# Altium schematic symbol library Connectors.SchLib: 27 symbols
Pins are listed as number, name and electrical type; pins without a type are passive.

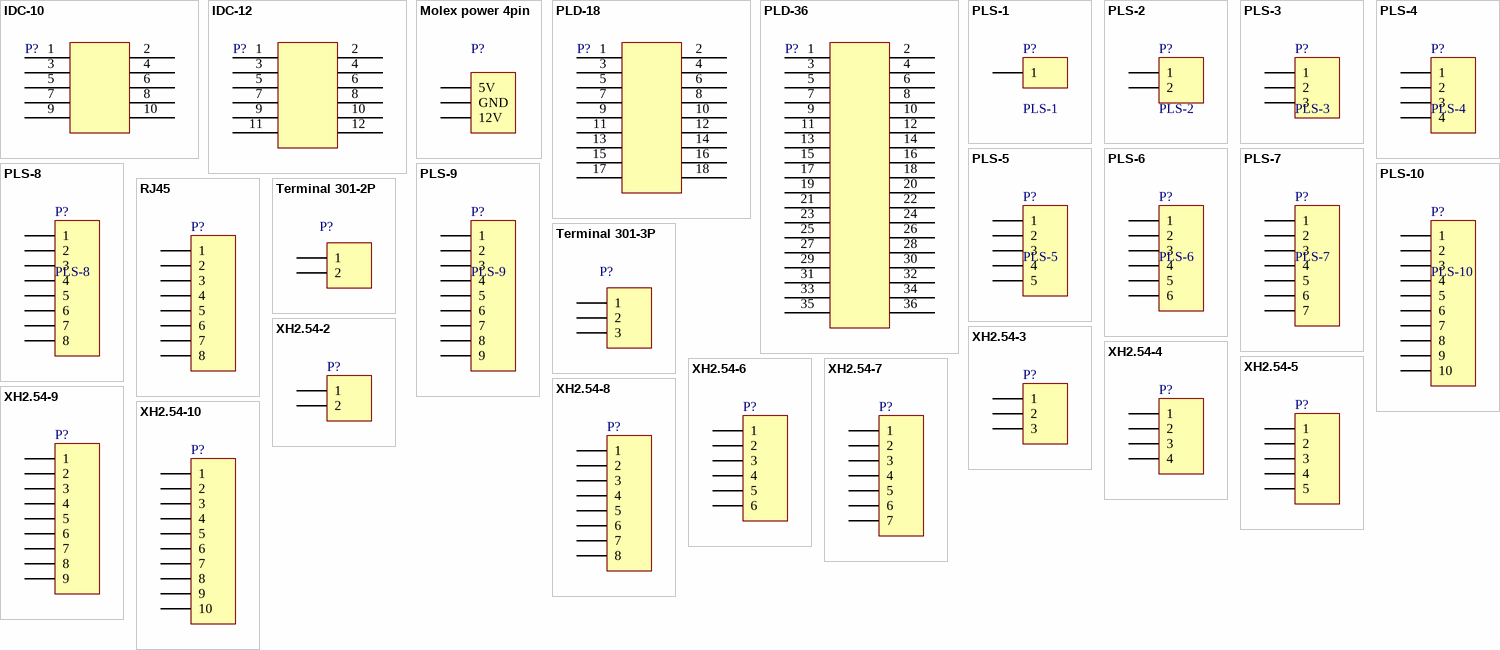
[diagram p0: symbols IDC-10 to XH2.54-10]

## IDC-10
designator P?  (value not drawn)
Double row pins
footprint IDC-10
signal-integrity model Connector
footprint IDC-10R
pins: 1 "5v", 2 "5v", 3 "Digital 22", 4 "Digital 23", 5 "Digital 24", 6 "Digital 25", 7 "Digital 26", 8 "Digital 27", 9 "Digital 28", 10 "Digital 29"

## IDC-12
designator P?  (value not drawn)
Double row pins
footprint IDC-12
signal-integrity model Connector
footprint IDC-12R
pins: 1 "5v", 2 "5v", 3 "Digital 22", 4 "Digital 23", 5 "Digital 24", 6 "Digital 25", 7 "Digital 26", 8 "Digital 27", 9 "Digital 28", 10 "Digital 29", 11 "Digital 30", 12 "Digital 31"

## Molex power 4pin
designator P?, comment Molex IDE power  (value not drawn)
from HDD
footprint molex 4pin
signal-integrity model Connector
pins: 5V, 12V, GND

## PLD-18
designator P?  (value not drawn)
Double row pins
footprint PLD-18-SMD
signal-integrity model Connector
pins: 1 "5v", 2 "5v", 3 "Digital 22", 4 "Digital 23", 5 "Digital 24", 6 "Digital 25", 7 "Digital 26", 8 "Digital 27", 9 "Digital 28", 10 "Digital 29", 11 "Digital 30", 12 "Digital 31", 13 "Digital 32", 14 "Digital 33", 15 "Digital 34", 16 "Digital 35", 17 "Digital 36", 18 "Digital 37"

## PLD-36
designator P?  (value not drawn)
Double row pins
footprint PLD-36-SMD
signal-integrity model Connector
pins: 1 "5v", 2 "5v", 3 "Digital 22", 4 "Digital 23", 5 "Digital 24", 6 "Digital 25", 7 "Digital 26", 8 "Digital 27", 9 "Digital 28", 10 "Digital 29", 11 "Digital 30", 12 "Digital 31", 13 "Digital 32", 14 "Digital 33", 15 "Digital 34", 16 "Digital 35", 17 "Digital 36", 18 "Digital 37", 19 "Digital 38", 20 "Digital 39", 21 "Digital 40", 22 "Digital 41", 23 "Digital 42", 24 "Digital 43", 25 "Digital 44", 26 "Digital 45", 27 "Digital 46", 28 "Digital 47", 29 "Digital 48", 30 "Digital 49", 31 "Digital 50", 32 "Digital 51", 33 "Digital 52", 34 "Digital 53", 35 "0v", 36 "0v"

## PLS-1
designator P?
Single row pins
footprint PLS-1
signal-integrity model Connector
footprint PLS-1R
pins: 1

## PLS-2
designator P?
Single row pins
footprint PLS-2
signal-integrity model Connector
footprint PLS-2R
footprint PLS-2-SMD
pins: 1, 2

## PLS-3
designator P?
Single row pins
footprint PLS-3
signal-integrity model Connector
footprint PLS-3R
pins: 1, 2, 3

## PLS-4
designator P?
Single row pins
footprint PLS-4
signal-integrity model Connector
footprint PLS-4R
footprint PLS-4-SMD
pins: 1, 2, 3, 4

## PLS-5
designator P?
Single row pins
footprint PLS-5
signal-integrity model Connector
footprint PLS-5R
pins: 1, 2, 3, 4, 5

## PLS-6
designator P?
Single row pins
footprint PLS-6
signal-integrity model Connector
footprint PLS-6R
footprint PLS-6-SMD
pins: 1, 2, 3, 4, 5, 6

## PLS-7
designator P?
Single row pins
footprint PLS-7
signal-integrity model Connector
footprint PLS-7R
pins: 1, 2, 3, 4, 5, 6, 7

## PLS-8
designator P?
Single row pins
footprint PLS-8
signal-integrity model Connector
footprint PLS-8R
footprint PLS-8-SMD
pins: 1, 2, 3, 4, 5, 6, 7, 8

## PLS-9
designator P?
Single row pins
footprint PLS-9
signal-integrity model Connector
footprint PLS-9R
pins: 1, 2, 3, 4, 5, 6, 7, 8, 9

## PLS-10
designator P?
Single row pins
footprint PLS-10
signal-integrity model Connector
footprint PLS-10R
footprint PLS-10-SMD
pins: 1, 2, 3, 4, 5, 6, 7, 8, 9, 10

## RJ45
designator P?  (value not drawn)
Ethernet
footprint RJ-45 socket (YH-55-05)
signal-integrity model Connector
pins: 1, 2, 3, 4, 5, 6, 7, 8

## Terminal 301-2P
designator P?  (value not drawn)
Screw terminal 5.08mm pitch
footprint Terminal 301-2P (Screw terminal 5.08mm pitch)
pins: 1, 2

## Terminal 301-3P
designator P?  (value not drawn)
Screw terminal 5.08mm pitch
footprint Terminal 301-3P (Screw terminal 5.08mm pitch)
pins: 1, 2, 3

## XH2.54-2
designator P?  (value not drawn)
footprint XH2.54-2
signal-integrity model Connector
pins: 1, 2

## XH2.54-3
designator P?  (value not drawn)
footprint XH2.54-3
signal-integrity model Connector
pins: 1, 2, 3

## XH2.54-4
designator P?  (value not drawn)
footprint XH2.54-4
signal-integrity model Connector
pins: 1, 2, 3, 4

## XH2.54-5
designator P?  (value not drawn)
footprint XH2.54-5
signal-integrity model Connector
pins: 1, 2, 3, 4, 5

## XH2.54-6
designator P?  (value not drawn)
footprint XH2.54-6
signal-integrity model Connector
pins: 1, 2, 3, 4, 5, 6

## XH2.54-7
designator P?  (value not drawn)
footprint XH2.54-7
signal-integrity model Connector
pins: 1, 2, 3, 4, 5, 6, 7

## XH2.54-8
designator P?  (value not drawn)
footprint XH2.54-8
signal-integrity model Connector
pins: 1, 2, 3, 4, 5, 6, 7, 8

## XH2.54-9
designator P?  (value not drawn)
footprint XH2.54-9
signal-integrity model Connector
pins: 1, 2, 3, 4, 5, 6, 7, 8, 9

## XH2.54-10
designator P?  (value not drawn)
footprint XH2.54-10
signal-integrity model Connector
pins: 1, 2, 3, 4, 5, 6, 7, 8, 9, 10